# Altium footprint library PcbLib.PcbLib: 19 footprints (part 1 of 2)
Each footprint in its own frame and in the unit in brackets; x right, y up, seen from the top. Pads: shape width x height; smd on the part's side, far side on the other; paste and mask are expansions set on the pad; w line width, h text height; cw(c..) or ccw(c..) is an arc to the next point about the centre after c.
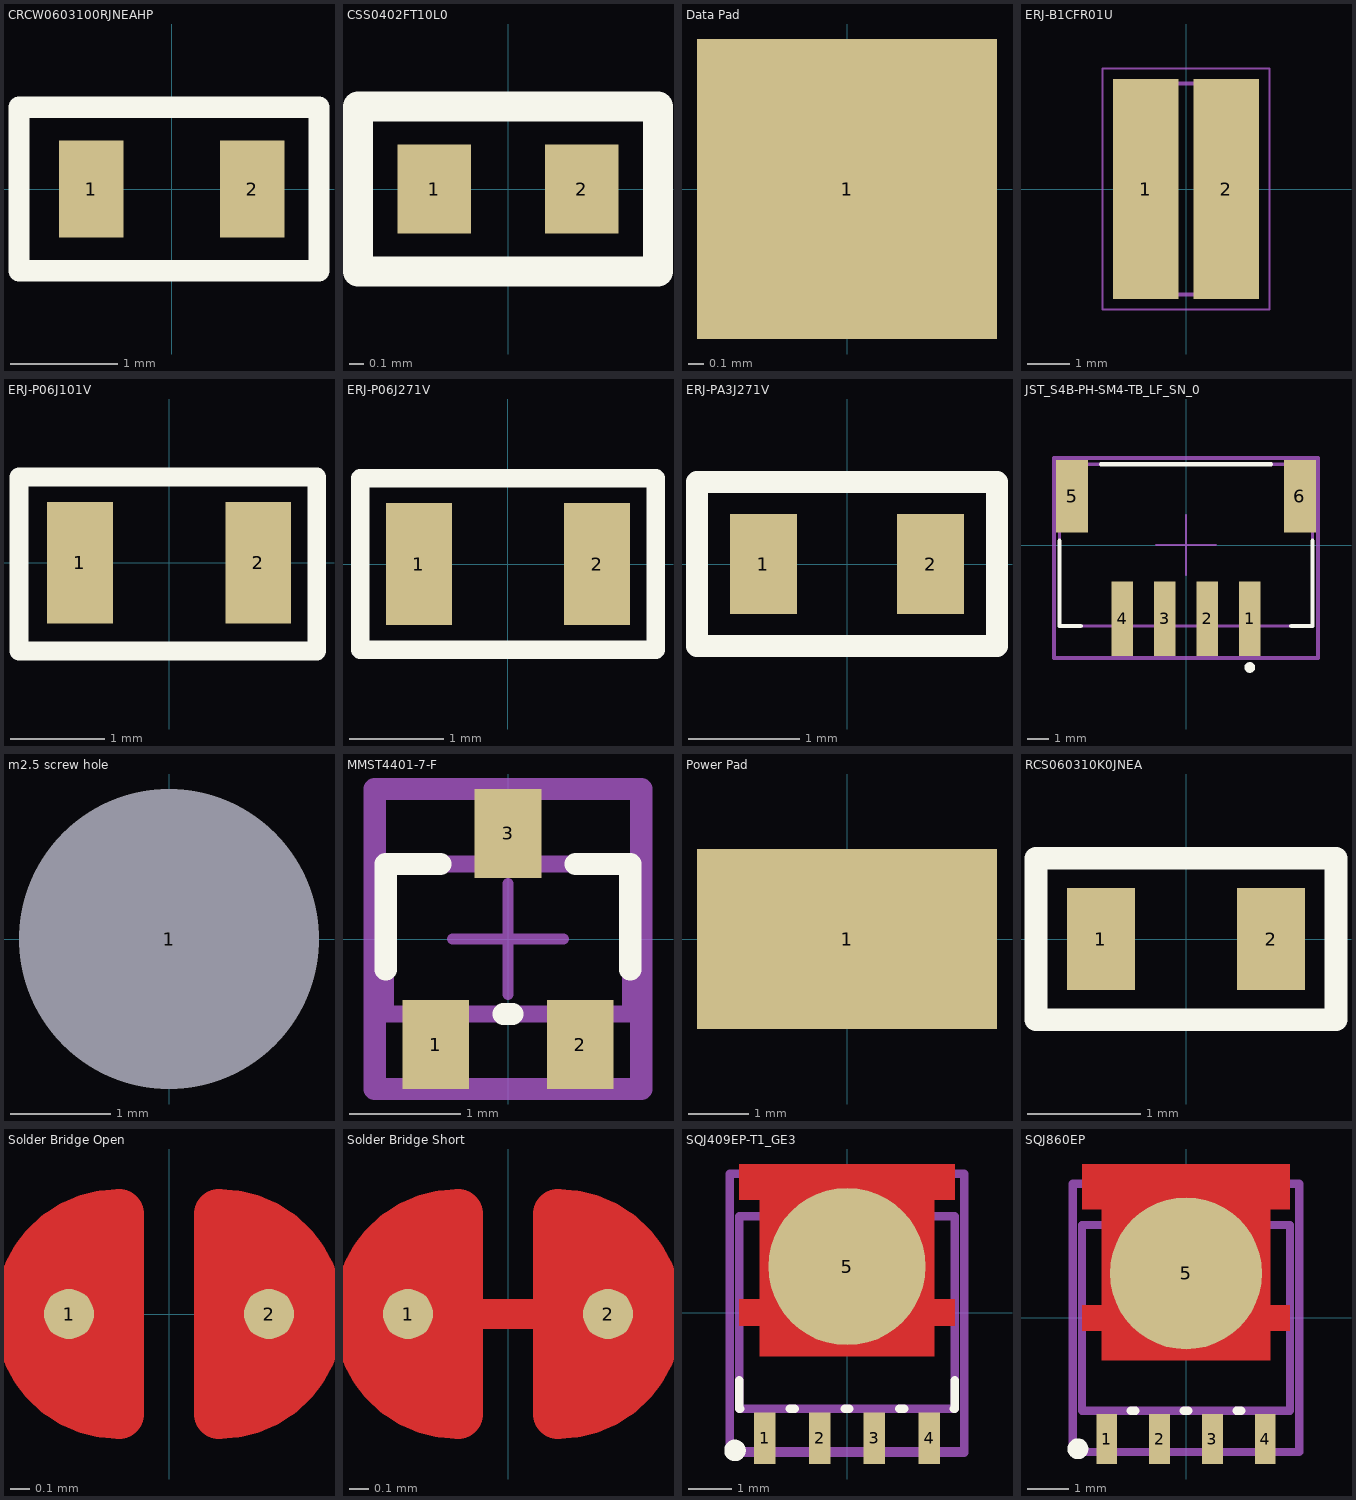
[diagram p0: the footprints below, top view; thin cyan lines are the x and y axes]

## CRCW0603100RJNEAHP [mm]
pads (2):
  rect 0.6x0.9 smd: 1(-0.75,0) 2(0.75,0)
Top Overlay:
  lines w0.2: -1.422,-0.762 1.372,-0.762 1.372,0.762 -1.422,0.762 -1.422,-0.762

## CSS0402FT10L0 [mm]
pads (2):
  rect 0.5x0.6 smd: 1(-0.5,0) 2(0.5,0)
Top Overlay:
  lines w0.2: -1.016,-0.559 -1.016,0.559 1.016,0.559 1.016,-0.559 -1.016,-0.559
3D body "CSS0402FT10L0.STEP": height 0.31, standoff 0.01, extent -0.5,-0.254 0.5,0.296

## Data Pad [mm]
pads (1):
  rect 2x2 smd: 1(0,0)

## ERJ-B1CFR01U [mm]
pads (2):
  rect 1.55x5.2 smd: 1(-0.95,0) 2(0.95,0)
Mechanical 13:
  lines w0.1: -1.25,-2.5 -1.25,2.5 1.25,2.5 1.25,-2.5 -1.25,-2.5
Mechanical 15:
  lines w0.05: -1.975,-2.85 -1.975,2.85 1.975,2.85 1.975,-2.85 -1.975,-2.85
3D body "ERJ-B1CFR01U.stp": height 0.75, standoff 0, extent -1.25,-2.5 1.25,2.5

## ERJ-P06J101V [mm]
pads (2):
  rect 0.7x1.3 smd: 1(-0.95,0) 2(0.95,0)
Top Overlay:
  lines w0.2: -1.6,-0.94 1.575,-0.94 1.575,0.914 -1.6,0.914 -1.6,-0.94
3D body "RC0805N_PAN.step": height 0.71, standoff 0, extent -1,-0.6 1,0.6

## ERJ-P06J271V [mm]
pads (2):
  rect 0.7x1.3 smd: 1(-0.95,0) 2(0.95,0)
Top Overlay:
  lines w0.2: -1.575,-0.914 1.575,-0.914 1.575,0.914 -1.575,0.914 -1.575,-0.914
3D body "RC0805N_PAN.step": height 0.71, standoff 0, extent -1,-0.6 1,0.6

## ERJ-PA3J271V [mm]
pads (2):
  rect 0.6x0.9 smd: 1(-0.75,0) 2(0.75,0)
Top Overlay:
  lines w0.2: -1.346,-0.737 1.346,-0.737 1.346,0.737 -1.346,0.737 -1.346,-0.737

## JST_S4B-PH-SM4-TB_LF_SN_0 [mm]
pads (6):
  rect 1x3.5 smd paste+0 mask+0: 1(3,-3.45) 2(1,-3.45) 3(-1,-3.45) 4(-3,-3.45)
  rect 1.5x3.4 smd paste+0 mask+0: 5(-5.35,2.3) 6(5.35,2.3)
Top Overlay:
  circle w0.25: c3,-5.75 r0.125
  lines w0.2: -5.95,0.2 -5.95,-3.8 -4.95,-3.8 ; -4,3.8 4,3.8 ; 4.95,-3.8 5.95,-3.8 5.95,0.2
Mechanical 10:
  lines w0.2: -6.2,-5.3 6.2,-5.3 6.2,4.1 -6.2,4.1 -6.2,-5.3
  text ".Designator" at 0,-0.6 h1
Mechanical 12:
  lines w0.15: -5.95,-3.8 5.95,-3.8 5.95,3.8 -5.95,3.8 -5.95,-3.8
Mechanical 15:
  lines w0.1: -1.41,0 1.41,0 ; 0,-1.41 0,1.41
  lines w0.2: -6.2,-5.3 6.2,-5.3 6.2,4.1 -6.2,4.1 -6.2,-5.3
3D body "Conn_JST_S4B-PH-SM4-TB_LF_SN_eec.STEP": height 0.25, standoff 0, extent -6.2,-5.3 6.2,4.1

## m2.5 screw hole [mm] "not through hole"
pads (1):
  round 1.7 hole 3: 1(0,0)

## MMST4401-7-F [mm] "SOT-323"
pads (3):
  rect 0.6x0.8 smd: 1(-0.65,-0.95) 2(0.65,-0.95) 3(0,0.95)
Top Overlay:
  lines w0.2: -1.1,-0.275 -1.1,0.675 -0.61,0.675 ; -0.04,-0.675 0.04,-0.675 ; 0.61,0.675 1.1,0.675 1.1,-0.275
Mechanical 10:
  lines w0.2: -1.2,-1.35 1.2,-1.35 1.2,1.35 -1.2,1.35 -1.2,-1.35
  text ".Designator" at 0,0 h1
Mechanical 12:
  lines w0.15: -1.1,-0.675 1.1,-0.675 1.1,0.675 -1.1,0.675 -1.1,-0.675
Mechanical 15:
  lines w0.1: -0.5,0 0.5,0 ; 0,-0.5 0,0.5
  lines w0.2: -1.2,-1.35 1.2,-1.35 1.2,1.35 -1.2,1.35 -1.2,-1.35
3D body "Trans_Diodes_MMST4401-7-F_eec.STEP": height 0.25, standoff 0, extent -1.35,-1.2 1.35,1.2

## Power Pad [mm]
pads (1):
  rect 5x3 smd: 1(0,0)

## RCS060310K0JNEA [mm]
pads (2):
  rect 0.6x0.9 smd: 1(-0.75,0) 2(0.75,0)
Top Overlay:
  lines w0.2: -1.321,-0.711 -1.321,0.203 -1.321,0.711 1.321,0.711 1.321,-0.711 -1.321,-0.711

## Solder Bridge Open [mil]
pads (2):
  round 10 smd mask+0: 1(-20,0) 2(20,0)
Top Layer:
  region: -10,-20 -20,-20 -30,-10 -30,10 -20,20 -10,20
  pour cut-out: 10,20 20,20 30,10 30,-10 20,-20 10,-20
  region: 10,20 20,20 30,10 30,-10 20,-20 10,-20
  region: 10,20 20,20 30,10 30,-10 20,-20 10,-20
  lines w10: -10,-20 cw(c-10,0) -10,20 -10,-20 ; 10,-20 ccw(c10,0) 10,20 10,-20
Top Solder:
  circle w30: c10,0 r12
  circle w30: c-10,0 r12
  lines w14: -10,-20 10,-20 ; -10,20 10,20

## Solder Bridge Short [mil]
pads (2):
  round 10 smd mask+0: 1(-20,0) 2(20,0)
Top Layer:
  region: -10,-20 -20,-20 -30,-10 -30,10 -20,20 -10,20
  pour cut-out: 10,20 20,20 30,10 30,-10 20,-20 10,-20
  pour cut-out: 10,20 20,20 30,10 30,-10 20,-20 10,-20
  region: 10,20 20,20 30,10 30,-10 20,-20 10,-20
  lines w6: -10,0 10,0
  lines w10: -10,-20 cw(c-10,0) -10,20 -10,-20 ; 10,-20 ccw(c10,0) 10,20 10,-20
Top Solder:
  circle w30: c-10,0 r12
  circle w30: c10,0 r12
  lines w14: -10,-20 10,-20 ; -10,20 10,20

## SQJ409EP-T1_GE3 [mm]
pads (5):
  rect 0.5x1.2 smd paste+0 mask+0: 1(-1.905,-2.915) 2(-0.635,-2.915) 3(0.635,-2.915) 4(1.905,-2.915)
  round 3.655 smd paste+0 mask+0: 5(0,1.07)
Top Layer:
  region: -2.5,3.45 2.5,3.45 2.5,2.615 2.03,2.615 2.03,0.305 2.5,0.305 2.5,-0.305 2.03,-0.305 2.03,-1.015 -2.03,-1.015 -2.03,-0.305 -2.5,-0.305 -2.5,0.305 -2.03,0.305 -2.03,2.615 -2.5,2.615
Top Overlay:
  circle w0.25: c-2.6,-3.2 r0.125
  lines w0.2: -2.5,-1.57 -2.5,-2.235 -2.485,-2.235 ; -1.325,-2.235 -1.215,-2.235 ; -0.055,-2.235 0.055,-2.235 ; 1.215,-2.235 1.325,-2.235 ; 2.485,-2.235 2.5,-2.235 2.5,-1.57
Mechanical 10:
  lines w0.2: -2.725,-3.225 2.725,-3.225 2.725,3.225 -2.725,3.225 -2.725,-3.225
  text ".Designator" at 0,0 h1
Mechanical 12:
  lines w0.2: -2.5,-2.235 2.5,-2.235 2.5,2.235 -2.5,2.235 -2.5,-2.235
Mechanical 15:
  lines w0.1: -0.5,0 0.5,0 ; 0,-0.5 0,0.5
  lines w0.2: -2.725,-3.25 2.725,-3.25 2.725,3.225 -2.725,3.225 -2.725,-3.25
3D body "Trans_Vishay_SQJ409EP-T1_GE3_eec.STEP": height 0.25, standoff 0, extent -2.725,-3.225 2.725,3.225

## SQJ860EP [mm]
pads (5):
  rect 0.5x1.2 smd paste+0 mask+0: 1(-1.905,-2.915) 2(-0.635,-2.915) 3(0.635,-2.915) 4(1.905,-2.915)
  round 3.655 smd paste+0 mask+0: 5(0,1.07)
Top Layer:
  region: -2.5,3.7 2.5,3.7 2.5,2.615 2.03,2.615 2.03,0.305 2.5,0.305 2.5,-0.305 2.03,-0.305 2.03,-1.015 -2.03,-1.015 -2.03,-0.305 -2.5,-0.305 -2.5,0.305 -2.03,0.305 -2.03,2.615 -2.5,2.615
Top Overlay:
  circle w0.25: c-2.6,-3.15 r0.125
  lines w0.2: -1.325,-2.235 -1.215,-2.235 ; -0.055,-2.235 0.055,-2.235 ; 1.215,-2.235 1.325,-2.235
Mechanical 10:
  lines w0.2: -2.725,-3.225 2.725,-3.225 2.725,3.225 -2.725,3.225 -2.725,-3.225
  text ".Designator" at 0,0 h1
Mechanical 12:
  lines w0.2: -2.5,-2.235 -2.5,2.235 2.5,2.235 2.5,-2.235 -2.5,-2.235
Mechanical 15:
  lines w0.1: -0.5,0 0.5,0 ; 0,-0.5 0,0.5
  lines w0.2: -2.725,-3.225 2.725,-3.225 2.725,3.225 -2.725,3.225 -2.725,-3.225
3D body "SQJ158EP.step": height 1.13, standoff 0.01, extent -2.616,-3.124 2.614,3.381